# EAGLE library part 74HC165 (library teensy-synth)
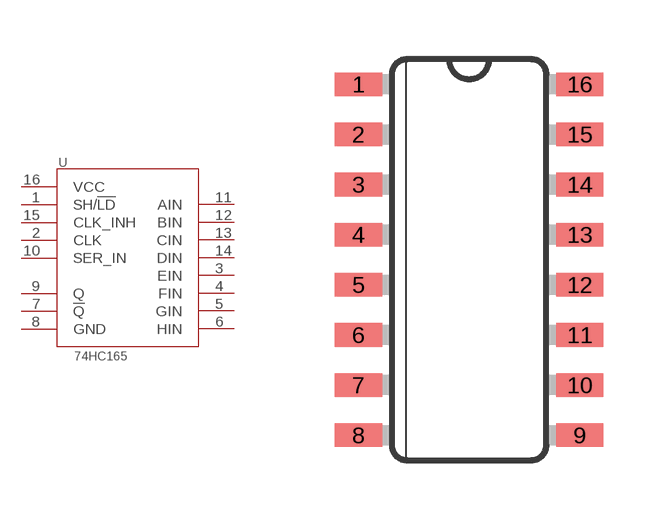
[diagram p1: symbol with the pads of SO16; footprint SO16]

Designator prefix U

## 74HC165 (VALUE: 74hc165)  [SO16]
1  SH/!LD
2  CLK
3  EIN
4  FIN
5  GIN
6  HIN
7  !Q
8  GND
9  Q
10  SER_IN
11  AIN
12  BIN
13  CIN
14  DIN
15  CLK_INH
16  VCC

## Footprint SO16 (pad centres in mm)
Small Outline package 150 mil
smd 1.2 x 0.6: 1 -2.8,4.445; 2 -2.8,3.175; 3 -2.8,1.905; 4 -2.8,0.635; 5 -2.8,-0.635; 6 -2.8,-1.905; 7 -2.8,-3.175; 8 -2.8,-4.445; 9 2.8,-4.445; 10 2.8,-3.175; 11 2.8,-1.905; 12 2.8,-0.635; 13 2.8,0.635; 14 2.8,1.905; 15 2.8,3.175; 16 2.8,4.445